# EAGLE library part DRV8701E (library OTHERTEST)
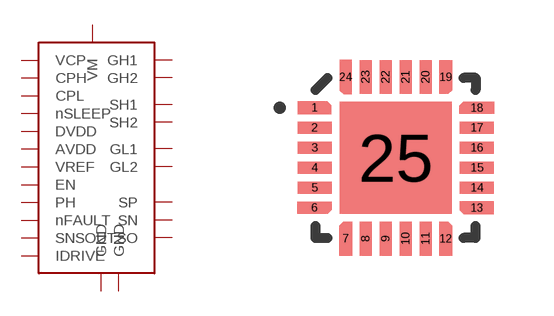
[diagram p4: symbol with the pads of QFN-24RV/4x4x0.5; footprint QFN-24RV/4x4x0.5]

Designator prefix U

## DRV8701E  [QFN-24RV/4x4x0.5]
1  VM  pwr
2  VCP  pwr
3  CPH  pwr
4  CPL  pwr
5  GND  pwr
6  VREF  in
7  AVDD  pwr
8  DVDD  pwr
9  nFAULT  out
10  SNSOUT  out
11  SO  out
12  IDRIVE  in
13  nSLEEP  in
14  EN  in
15  PH  in
16  GND  pwr
17  GH1  out
18  SH1  in
19  GL1  out
20  SN  in
21  SP  in
22  GL2  out
23  SH2  in
24  GH2  out

## Footprint QFN-24RV/4x4x0.5 (pad centres in mm)
smd 0.3 x 0.3: 1 -2.03,1.25; 6 -2.03,-1.25; 7 -1.25,-2.02; 12 1.25,-2.02; 13 2.03,-1.25; 18 2.03,1.25; 19 1.25,2.02; 24 -1.25,2.02
smd 0.85 x 0.3: 2 -2.03,0.75; 3 -2.03,0.25; 4 -2.03,-0.25; 5 -2.03,-0.75; 14 2.03,-0.75; 15 2.03,-0.25; 16 2.03,0.25; 17 2.03,0.75
smd 0.3 x 0.85: 8 -0.75,-2.02; 9 -0.25,-2.02; 10 0.25,-2.02; 11 0.75,-2.02; 20 0.75,2.02; 21 0.25,2.02; 22 -0.25,2.02; 23 -0.75,2.02
smd 2.8 x 2.8: 25 0,0